# EAGLE library part ARDIONO-MINI-PRO (library MyComp)
ARDuino pro mini
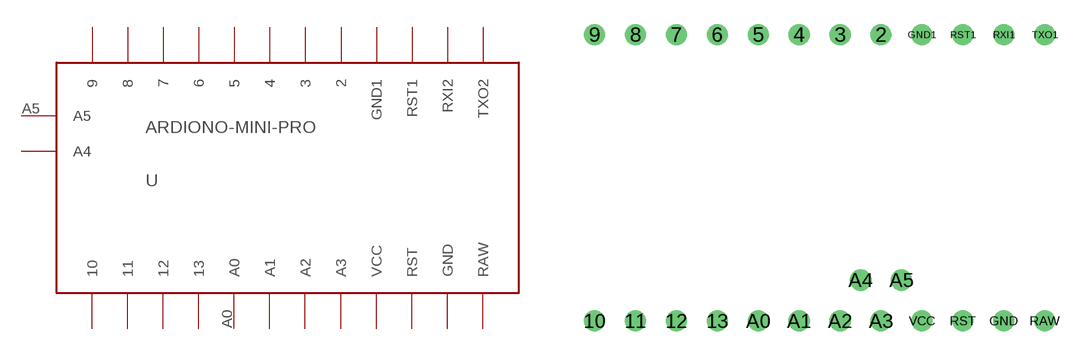
[diagram p0: symbol with the pads of ARDUINO-MINI-PRO; footprint ARDUINO-MINI-PRO]

Designator prefix -

## ARDIONO-MINI-PRO  [ARDUINO-MINI-PRO]
2  2
3  3
4  4
5  5
6  6
7  7
8  8
9  9
10  10
11  11
12  12
13  13
A0  A0
A1  A1
A2  A2
A3  A3
A4  A4
A5  A5
GND  GND  pwr
GND1  GND1  pwr
RAW  RAW  pwr
RST  RST
RST1  RST1
RXI1  RXI2
TXO1  TXO2
VCC  VCC  pwr

## Footprint ARDUINO-MINI-PRO (pad centres in mm)
Arduino MINI Pro Без площадок для программатора
drill 0.8: 2 5.08,5.08; 3 2.54,5.08; 4 0,5.08; 5 -2.54,5.08; 6 -5.08,5.08; 7 -7.62,5.08; 8 -10.16,5.08; 9 -12.7,5.08; 10 -12.7,-12.7; 11 -10.16,-12.7; 12 -7.62,-12.7; 13 -5.08,-12.7; A0 -2.54,-12.7; A1 0,-12.7; A2 2.54,-12.7; A3 5.08,-12.7; A4 3.81,-10.16; A5 6.35,-10.16; GND 12.7,-12.7; GND1 7.62,5.08; RAW 15.24,-12.7; RST 10.16,-12.7; RST1 10.16,5.08; RXI1 12.7,5.08; TXO1 15.24,5.08; VCC 7.62,-12.7